# EAGLE library part 687108182122 (library Eagle_FPC_CONNECTOR_AND_FFC_CAB (rev18c))
CONFPCI - 0.5 MM PITCH HORIZONTAL DUAL CONTACT, BACK FLIP ACTUATOR=>Code : ConFPC-687108182122 Characteristics INSULATOR: LCP FLAMABILITY RATING: UL94-V0 COLOUR: IVORY CONTACT MATERIAL: PHOSPHOR BRONZE CONTACT PLATING: 80 μ’’ MAT TIN OVER 50 μ’’ NICKEL CONTACT TYPE: STAMPED TAB MATERIAL: BRASS TAB PLATING: 80 μ’’ MAT TIN OVER 50 μ’’ NICKEL TAB TYPE: STAMPED ACTUATOR MATERIAL: PA9T ACTUATOR COLOUR: BLACK QUALITY CLASS: 20 MATING CYCLES PITCH: 0.50 MM PACKAGING:TAPE AND REEL COMPLIANCE: ROHS AND HALOGEN FREE OPERATING TEMPERATURE: -40°C UP TO +105°C ELECTRICAL CURRENT RATING: 0.5A WORKING VOLTAGE: 50 VAC WITHSTANDING VOLTAGE: 0.25 KVAC/min CONTATC RESISTANCE: 30 mOHM INSULATION RESISTANCE: >500 MΩ <http://katalog.we-online.de/media/images/v2/Family_WR-FPC_687186182122.jpg> Details see: http://katalog.we-online.de/en/em/FPC_0_5_SMT_ZIF_HORIZONTAL_DUAL_CONTACT_BACK_LOCKING_6871XX182122 2015 (C) Wurth Elektronik
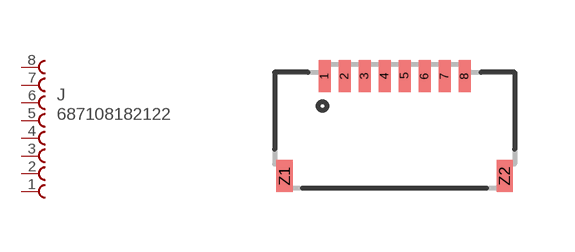
[diagram p128: symbol with the pads of 687108182122; footprint 687108182122]

Designator prefix J

## 687108182122  [687108182122]
1  8  pas
2  7  pas
3  6  pas
4  5  pas
5  4  pas
6  3  pas
7  2  pas
8  1  pas

## Footprint 687108182122 (pad centres in mm)
smd 0.3 x 0.8: 1 -1.75,1.25; 2 -1.25,1.25; 3 -0.75,1.25; 4 -0.25,1.25; 5 0.25,1.26; 6 0.75,1.25; 7 1.25,1.25; 8 1.75,1.25
smd 0.4 x 0.8: Z1 -2.75,-1.25; Z2 2.75,-1.25